# Altium schematic symbol library Molex.SchLib: 4 symbols
Pins are listed as number, name and electrical type; pins without a type are passive.

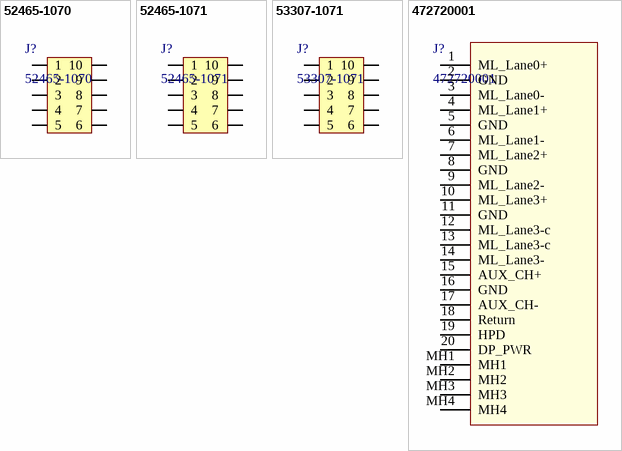
[diagram p0: symbols 52465-1070 to 472720001]

## 52465-1070
designator J?
SlimStack板对板连接器， / 0.80毫米端子间距，浮动接点系列
footprint 52465-1070
pins: 1, 2, 3, 4, 5, 6, 7, 8, 9, 10

## 52465-1071
designator J?
SlimStack板对板连接器， / 0.80毫米端子间距，浮动接点系列
footprint 52465-1071
pins: 1, 2, 3, 4, 5, 6, 7, 8, 9, 10

## 53307-1071
designator J?
SlimStack板对板连接器， / 0.80毫米端子间距，浮动接点系列
footprint 53307-1071
pins: 1, 2, 3, 4, 5, 6, 7, 8, 9, 10

## 472720001
designator J?
Connector; Manufacturer_Name: Molex; Datasheet Link: https://www.arrow.com/en/products/472720001/molex; Height: 6.9mm; Manufacturer_Part_Number: 472720001; Arrow Part Number: 472720001; Arrow Price/Stock: https://www.arrow.com/en/products/472720001/molex
footprint 472720001
pins: 1 ML_Lane0+, 2 GND, 3 ML_Lane0-, 4 ML_Lane1+, 5 GND, 6 ML_Lane1-, 7 ML_Lane2+, 8 GND, 9 ML_Lane2-, 10 ML_Lane3+, 11 GND, 12 ML_Lane3-c, 13 ML_Lane3-c, 14 ML_Lane3-, 15 AUX_CH+, 16 GND, 17 AUX_CH-, 18 Return, 19 HPD, 20 DP_PWR, MH1, MH2, MH3, MH4